# EAGLE library part SX28AC/DP (library ubicom)
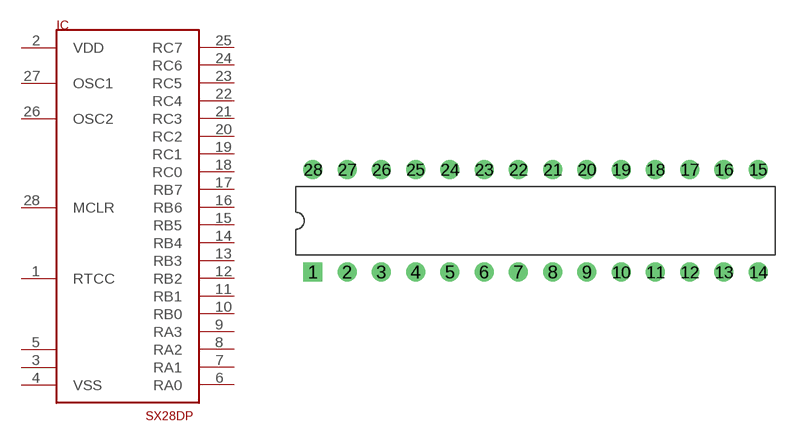
[diagram p0: symbol with the pads of 28DIP; footprint 28DIP]

Designator prefix IC

## SX28AC/DP  [28DIP]
1  RTCC  in
2  VDD  pwr
3  P$3  nc
4  VSS  pwr
5  P$5  nc
6  RA0
7  RA1
8  RA2
9  RA3
10  RB0
11  RB1
12  RB2
13  RB3
14  RB4
15  RB5
16  RB6
17  RB7
18  RC0
19  RC1
20  RC2
21  RC3
22  RC4
23  RC5
24  RC6
25  RC7
26  OSC2  out
27  OSC1  in
28  MCLR  in

## Footprint 28DIP (pad centres in mm)
drill 0.813 pad 1.397 square: 1 -10.16,-3.81
drill 0.813 pad 1.397 round: 2 -7.62,-3.81; 3 -5.08,-3.81; 4 -2.54,-3.81; 5 0,-3.81; 6 2.54,-3.81; 7 5.08,-3.81; 8 7.62,-3.81; 9 10.16,-3.81; 10 12.7,-3.81; 11 15.24,-3.81; 12 17.78,-3.81; 13 20.32,-3.81; 14 22.86,-3.81; 15 22.86,3.81; 16 20.32,3.81; 17 17.78,3.81; 18 15.24,3.81; 19 12.7,3.81; 20 10.16,3.81; 21 7.62,3.81; 22 5.08,3.81; 23 2.54,3.81; 24 0,3.81; 25 -2.54,3.81; 26 -5.08,3.81; 27 -7.62,3.81; 28 -10.16,3.81